# Altium footprint library SSOP-14.PcbLib: 1 footprints
Each footprint in its own frame and in the unit in brackets; x right, y up, seen from the top. Pads: shape width x height; smd on the part's side, far side on the other; paste and mask are expansions set on the pad; w line width, h text height; cw(c..) or ccw(c..) is an arc to the next point about the centre after c.
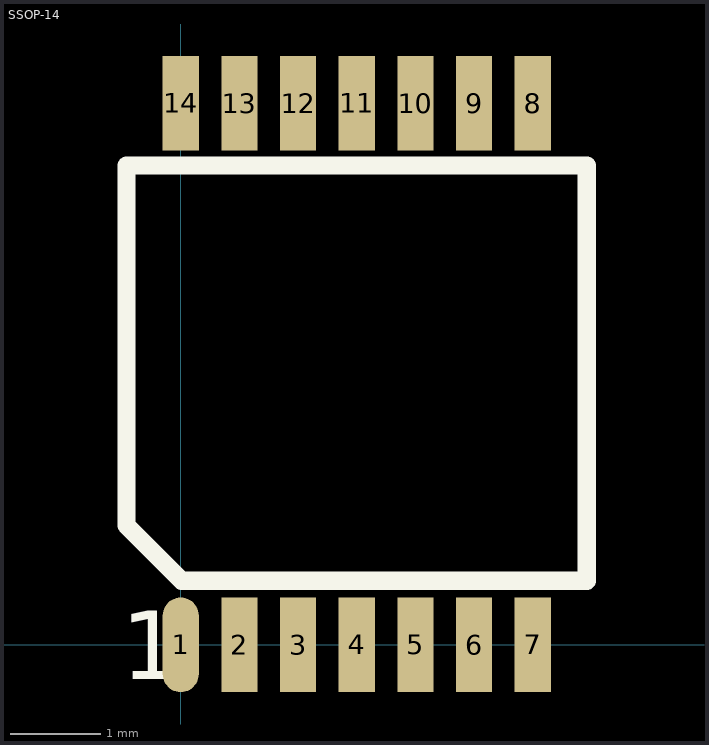
[diagram p0: the footprint, top view; thin cyan lines are the x and y axes]

## SSOP-14 [mm]
height 1.2
pads (14):
  oval 0.4x1.05 smd: 1(0,0)
  rect 0.4x1.05 smd: 2(0.65,0) 3(1.3,0) 4(1.95,0) 5(2.6,0) 6(3.25,0) 7(3.9,0) 8(3.9,6) 9(3.25,6) 10(2.6,6) 11(1.95,6) 12(1.3,6) 13(0.65,6) 14(0,6)
TopOverlay:
  lines w0.203: -0.6,1.321 0.01,0.711 4.5,0.711 4.5,5.309 -0.6,5.309 -0.6,1.321
  text "1" at -0.66,-0.381 h0.76